# Altium footprint library RM812.PcbLib: 1 footprints
Each footprint in its own frame and in the unit in brackets; x right, y up, seen from the top. Pads: shape width x height; smd on the part's side, far side on the other; paste and mask are expansions set on the pad; w line width, h text height; cw(c..) or ccw(c..) is an arc to the next point about the centre after c.
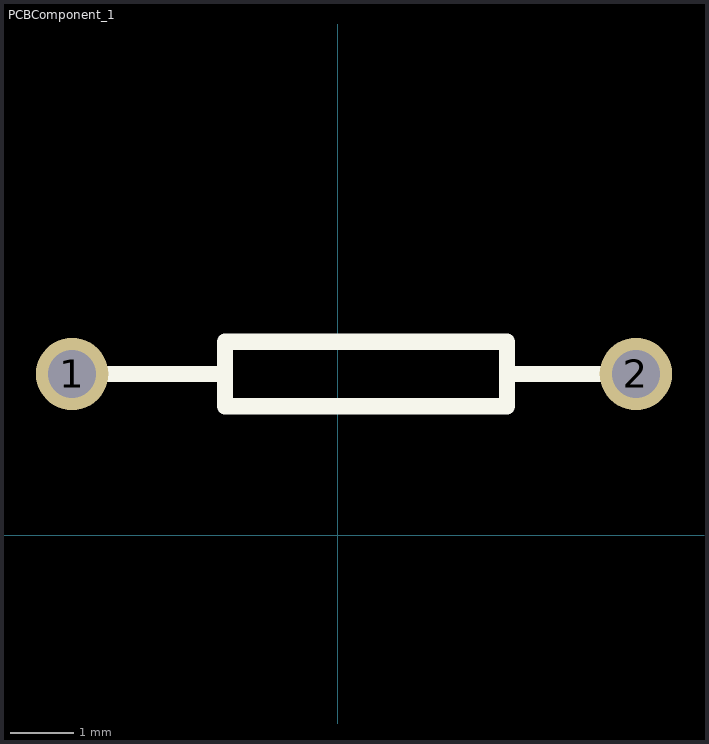
[diagram p0: the footprint, top view; thin cyan lines are the x and y axes]

## PCBComponent_1 [mil]
pads (2):
  round 45 hole 30: 1(-165,100) 2(185,100)
Top Overlay:
  lines w10: -155,100 -70,100 -155,100 ; -70,80 105,80 105,120 -70,120 -70,80 ; 105,100 185,100 105,100